# Altium schematic symbol library SCH - DRIVER - TI DRV8811PWP.SCHLIB: 1 symbol
Pins are listed as number, name and electrical type; pins without a type are passive.

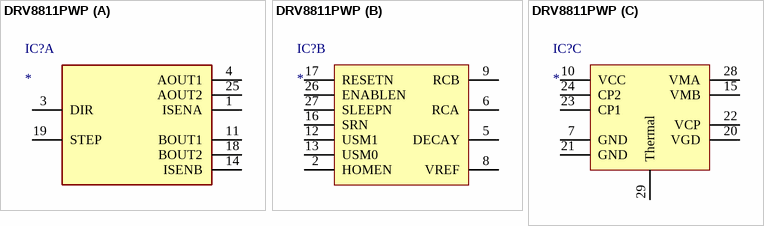
[diagram p0: symbol DRV8811PWP]

## DRV8811PWP
designator IC?
Integrated Circuit; Manufacturer_Name: Texas Instruments; Manufacturer_Part_Number: DRV8811PWP; Description: 1.9A Bipolar Stepper Motor Driver with On-Chip 1/8 Microstepping Indexer (Step/Dir Ctrl); Datasheet Link: http://www.ti.com/lit/gpn/drv8811; Height: 1.2mm; Mouser Part Number: 595-DRV8811PWP; Mouser Price/Stock: https://www.mouser.co.uk/ProductDetail/Texas-Instruments/DRV8811PWP?qs=XGzIaZb%2FFYK3wO%252BB9d12GQ%3D%3D; Arrow Part Number: DRV8811PWP; Arrow Price/Stock: https://www.arrow.com/en/products/drv8811pwp/texas-instruments?region=nac
part A pins: 1 ISENA, 3 DIR, 4 AOUT1, 11 BOUT1, 14 ISENB, 18 BOUT2, 19 STEP, 25 AOUT2
part B pins: 2 HOMEN, 5 DECAY, 6 RCA, 8 VREF, 9 RCB, 12 USM1, 13 USM0, 16 SRN, 17 RESETN, 26 ENABLEN, 27 SLEEPN
part C pins: 7 GND, 10 VCC, 15 VMB, 20 VGD, 21 GND, 22 VCP, 23 CP1, 24 CP2, 28 VMA, 29 Thermal